# EAGLE library part RJ45 (library rj45-connector)
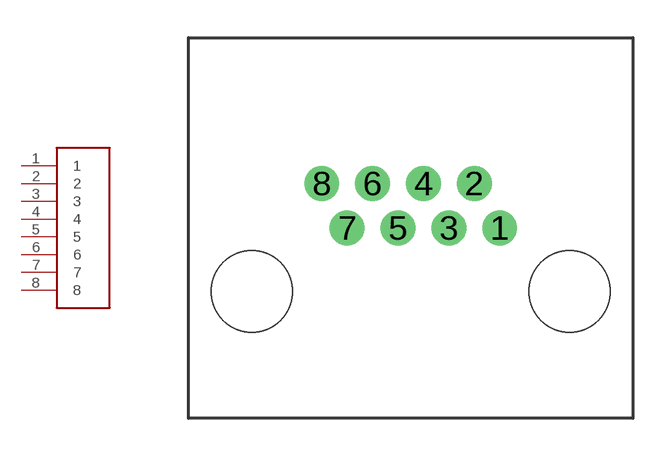
[diagram p0: symbol with the pads of RJ45; footprint RJ45]

Designator prefix -

## RJ45  [RJ45]
1  1
2  2
3  3
4  4
5  5
6  6
7  7
8  8

## Footprint RJ45 (pad centres in mm)
drill 0.889: 1 9.906,2.54; 2 8.89,4.318; 3 7.874,2.54; 4 6.858,4.318; 5 5.842,2.54; 6 4.826,4.318; 7 3.81,2.54; 8 2.794,4.318
hole 3.251 at 0,0
hole 3.251 at 12.7,0